# Altium footprint library ATK-VL53L0X v1.1.PcbLib: 4 footprints
Each footprint in its own frame and in the unit in brackets; x right, y up, seen from the top. Pads: shape width x height; smd on the part's side, far side on the other; paste and mask are expansions set on the pad; w line width, h text height; cw(c..) or ccw(c..) is an arc to the next point about the centre after c.
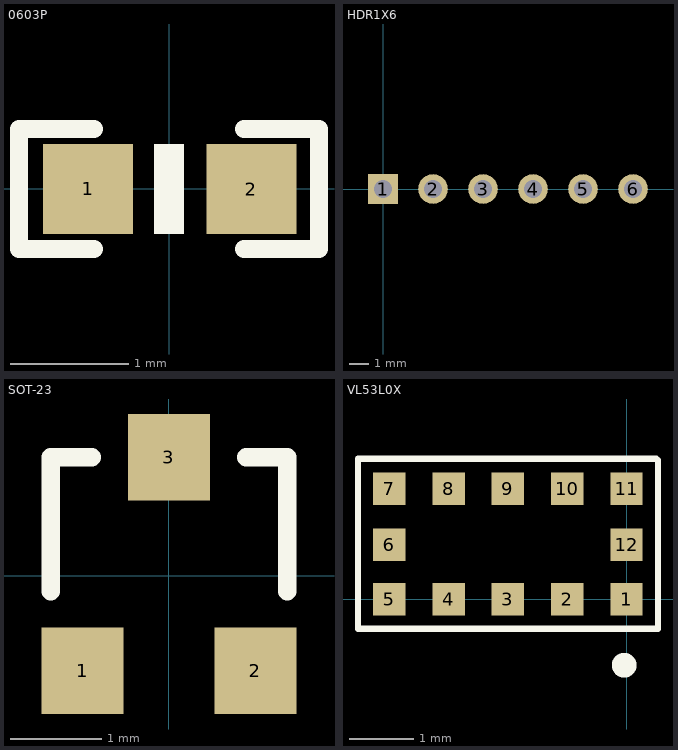
[diagram p0: the footprints below, top view; thin cyan lines are the x and y axes]

## 0603P [mil]
pads (2):
  rect 30x30 smd: 1(-27,0) 2(27.5,-0.06)
Top Overlay:
  region: 4.98,-15.05 4.98,14.95 -5.02,14.95 -5.02,-15.05
  lines w6: -25,-20.06 -50,-20.06 -50,19.94 -25,19.94 ; 25,-20.06 50,-20.06 50,19.94 25,19.94

## HDR1X6 [mm] "Connector; Header; 6 Position"
pads (6):
  rect 1.5x1.5 hole 0.9: 1(0,0)
  round 1.5 hole 0.9: 2(2.54,0) 3(5.08,0) 4(7.62,0) 5(10.16,0) 6(12.7,0)
Bottom Overlay:
  lines w0.2: -1.27,-1.27 -1.27,1.27 13.97,1.27 13.97,-1.27 -1.27,-1.27

## SOT-23 [mm] "SOT-23; 3 Leads; Body 3.0 x 2.5 mm, inc. leads (LxW max)"
height 1.2
pads (3):
  rect 0.9x0.95 smd: 1(-0.95,-1.048) 2(0.95,-1.048) 3(0,1.302)
Top Overlay:
  lines w0.2: -1.3,-0.173 -1.3,1.302 -0.85,1.302 ; 0.85,1.302 1.3,1.302 1.3,-0.173

## VL53L0X [mm]
pads (12):
  rect 0.5x0.5 smd: 1(0,0) 2(-0.914,0) 3(-1.829,0) 4(-2.743,0) 5(-3.658,0) 6(-3.658,0.838) 7(-3.658,1.702) 8(-2.743,1.702) 9(-1.829,1.702) 10(-0.914,1.702) 11(0,1.702) 12(0,0.838)
Top Overlay:
  circle w0.254: c-0.036,-1.016 r0.064
  lines w0.1: -4.14,-0.457 0.485,-0.457 0.485,2.143 ; -4.14,-0.432 -4.14,2.168 0.46,2.168